# Altium integrated library PMCXB900UEL.IntLib: 1 symbol
Pins are listed as number, name and electrical type; pins without a type are passive.

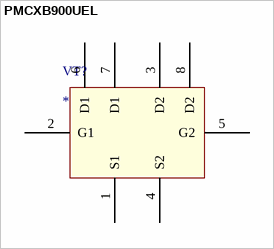
[diagram p0: symbol PMCXB900UEL]

## PMCXB900UEL
designator VT?
pins: 1 S1, 2 G1, 3 D2, 4 S2, 5 G2, 6 D1, 7 D1, 8 D2